# Altium integrated library TIP122.IntLib: 1 symbol
Pins are listed as number, name and electrical type; pins without a type are passive.

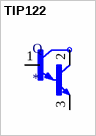
[diagram p0: symbol TIP122]

## TIP122
designator Q
Trans Darlington NPN 100V 5A 2000mW Automotive 3-Pin(3+Tab) TO-220 Bag; MP: TIP122; MF: NTE Electronics, Inc; Availability: Unavailable; Package: None; DigiKey-Purchase-URL: https://snapeda.com/shop?store=DigiKey&id=4804824; Mouser-Purchase-URL: https://snapeda.com/shop?store=Mouser&id=4804824; Value: *; SnapEDA_Link: https://www.snapeda.com/parts/TIP122/NTE%20Electronics/view-part/4804824/?ref=snap; Price: None
footprint TO220
pins: 1 B, 2 C, 3 E